# Altium footprint library SMT-0825-S-4-R.PcbLib: 1 footprints
Each footprint in its own frame and in the unit in brackets; x right, y up, seen from the top. Pads: shape width x height; smd on the part's side, far side on the other; paste and mask are expansions set on the pad; w line width, h text height; cw(c..) or ccw(c..) is an arc to the next point about the centre after c.
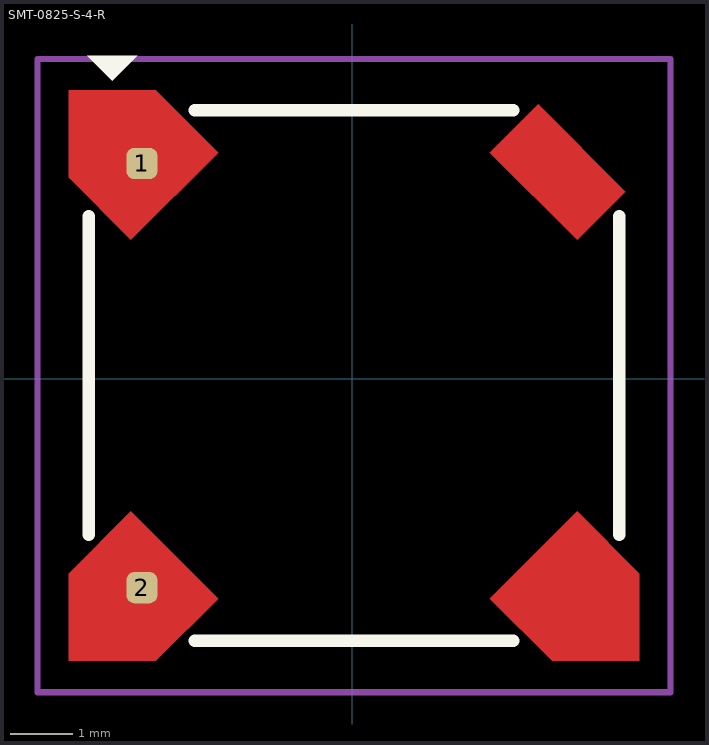
[diagram p0: the footprint, top view; thin cyan lines are the x and y axes]

## SMT-0825-S-4-R [mm]
pads (2):
  rrect50% 0.5x0.5 smd: 1(-3.375,3.45) 2(-3.375,-3.35)
Top Layer:
  region: -3.55,2.225 -2.15,3.625 -3.15,4.625 -4.55,4.625 -4.55,3.225
  region: -2.15,-3.525 -3.55,-2.125 -4.55,-3.125 -4.55,-4.525 -3.15,-4.525
  region: 3.6,-2.125 2.2,-3.525 3.2,-4.525 4.6,-4.525 4.6,-3.125
  region: 2.2,3.625 3.6,2.225 4.375,3 2.975,4.4
Top Overlay:
  region: -4.25,5.175 -3.45,5.175 -3.85,4.775
  lines w0.2: -4.225,-2.5 -4.225,2.6 ; -2.525,-4.2 2.575,-4.2 ; -2.525,4.3 2.575,4.3 ; 4.275,-2.5 4.275,2.6
Top Courtyard:
  lines w0.1: -5.05,-5.025 -4.55,-5.025 5.1,-5.025 5.1,5.125 -5.05,5.125 -5.05,-5.025
3D body: height 3, standoff 0, extent -4.225,-4.2 4.275,4.3